# Altium footprint library thesis.PcbLib: 38 footprints (part 1 of 3)
Each footprint in its own frame and in the unit in brackets; x right, y up, seen from the top. Pads: shape width x height; smd on the part's side, far side on the other; paste and mask are expansions set on the pad; w line width, h text height; cw(c..) or ccw(c..) is an arc to the next point about the centre after c.
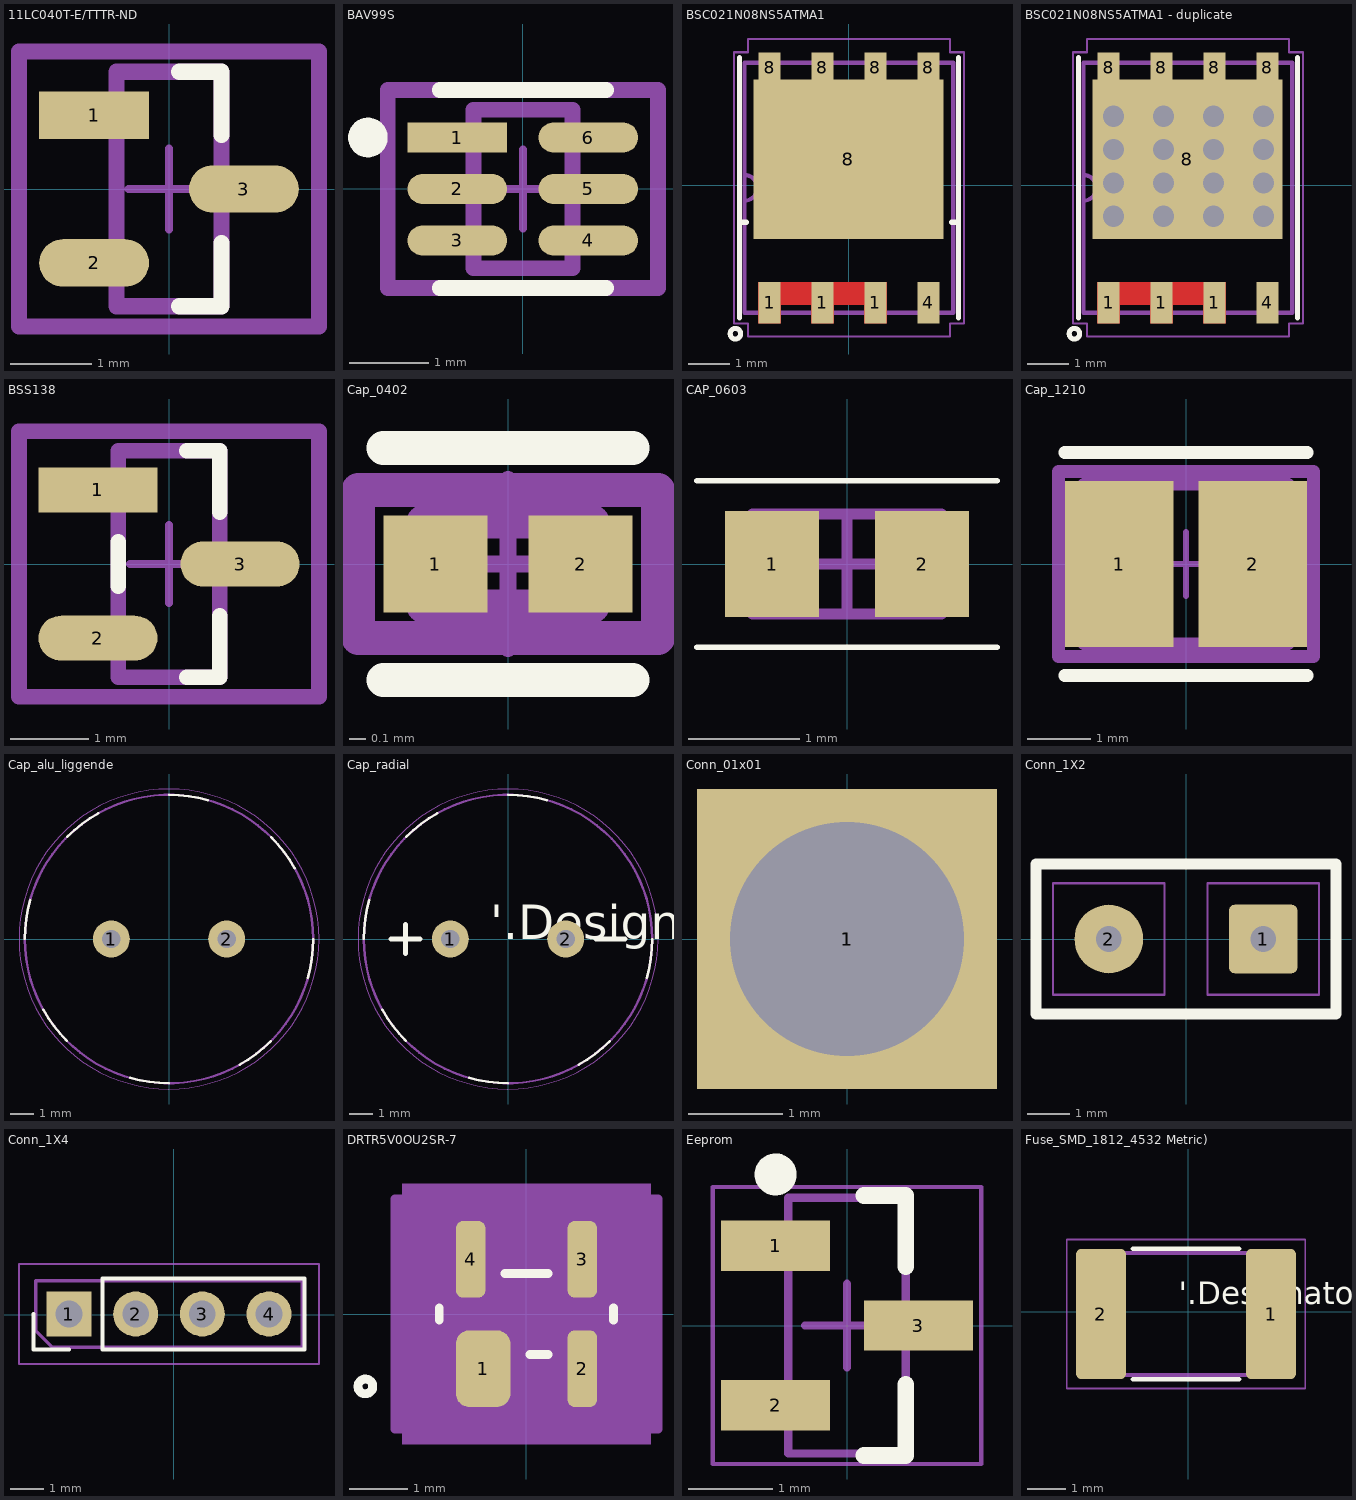
[diagram p0: the footprints below, top view; thin cyan lines are the x and y axes]

## 11LC040T-E/TTTR-ND [mm] "SOT23-3"
pads (3):
  rect 1.359x0.587 smd paste+0 mask+0: 1(-0.927,0.915)
  rrect100% 1.359x0.587 smd paste+0 mask+0: 2(-0.927,-0.915) 3(0.927,0)
Top Overlay:
  lines w0.2: 0.128,-1.45 0.65,-1.45 0.65,-0.668 ; 0.128,1.45 0.65,1.45 0.65,0.668
  text ".Designator" at -0.508,-0.413 h0.51
Top 3D Body:
  lines w0.2: -0.65,-1.45 0.65,-1.45 0.65,1.45 -0.65,1.45 -0.65,-1.45
Top Assembly:
  lines w0.2: -1.856,-1.7 1.856,-1.7 1.856,1.7 -1.856,1.7 -1.856,-1.7
Top Component Center:
  lines w0.1: -0.5,0 0.5,0 ; 0,-0.5 0,0.5
  lines w0.2: -1.856,-1.7 1.856,-1.7 1.856,1.7 -1.856,1.7 -1.856,-1.7
3D body "11LC040T-E.step": height 1.12, standoff 0, extent -1.32,-1.525 1.32,1.525

## BAV99S [mm]
pads (6):
  rect 1.259x0.382 smd paste+0 mask+0: 1(-0.827,0.65)
  rrect100% 1.259x0.382 smd paste+0 mask+0: 2(-0.827,0) 3(-0.827,-0.65) 4(0.827,-0.65) 5(0.827,0) 6(0.827,0.65)
Top Overlay:
  circle w0.25: c-1.956,0.65 r0.125
  lines w0.2: -1.05,-1.25 1.05,-1.25 ; -1.05,1.25 1.05,1.25
  text ".Designator" at -0.381,-1.072 h0.38
Top 3D Body:
  lines w0.2: -0.625,-1 0.625,-1 0.625,1 -0.625,1 -0.625,-1
Top Assembly:
  lines w0.2: -1.706,-1.25 1.706,-1.25 1.706,1.25 -1.706,1.25 -1.706,-1.25
Top Component Center:
  lines w0.1: -0.5,0 0.5,0 ; 0,-0.5 0,0.5
  lines w0.2: -1.706,-1.25 1.706,-1.25 1.706,1.25 -1.706,1.25 -1.706,-1.25
3D body "Trans_Nexperia_NX3008NBKS_115_eec.STEP": height 0.25, standoff 0, extent -1.706,-1.25 1.706,1.25

## BSC021N08NS5ATMA1 [mil] "Mosfet_esc"
pads (9):
  rect 21x39 smd mask+0: 1(-75,-110.94) 1(-25,-110.94) 1(25,-110.94) 4(75,-110.94)
  rect 21x29 smd mask+0: 8(-75,110.94) 8(-25,110.94) 8(25,110.94) 8(75,110.94)
  rect 179.13x150.64 smd mask+0: 8(-0.5,24.52)
Top Layer:
  region: 35.5,-91.44 35.5,-130.44 14.5,-130.44 14.5,-113.08 -14.5,-113.08 -14.5,-130.44 -35.5,-130.44 -35.5,-113.08 -64.5,-113.08 -64.5,-130.44 -85.5,-130.44 -85.5,-91.44
Top Overlay:
  circle w4.72: c-107.22,-140.2 r5
  lines w4.72: -103.5,-125.48 -103.5,120.52 ; 103.5,-125.48 103.5,120.52
  lines w5: -103,-35 -97,-35 ; 97,-35 103,-35
Top Paste:
  region: 83.5,-92.74 83.5,-107.74 66.5,-107.74 66.5,-92.74
  region: 83.5,-112.94 83.5,-127.94 66.5,-127.94 66.5,-112.94
  region: 33.49,-93.03 33.49,-108.03 -0.01,-108.03 -0.01,-93.03
  region: 33.5,-112.94 33.5,-127.94 16.5,-127.94 16.5,-112.94
  region: -16.5,-112.94 -16.5,-127.94 -33.5,-127.94 -33.5,-112.94
  region: -8.25,-93.03 -8.25,-108.03 -41.75,-108.03 -41.75,-93.03
  region: -50.01,-93.03 -50.01,-108.03 -83.51,-108.03 -83.51,-93.03
  region: -66.5,-112.94 -66.5,-127.94 -83.5,-127.94 -83.5,-112.94
  region: 83.5,123.54 83.5,91.04 66.5,91.04 66.5,123.54
  region: 33.5,123.54 33.5,91.04 16.5,91.04 16.5,123.54
  region: -16.5,123.54 -16.5,91.04 -33.5,91.04 -33.5,123.54
  region: -66.5,123.54 -66.5,91.04 -83.5,91.04 -83.5,123.54
  region: 63,86.04 63,27.04 4,27.04 4,86.04
  region: -3.93,86.04 -3.93,27.04 -62.93,27.04 -62.93,86.04
  region: 63,19.11 63,-39.89 4,-39.89 4,19.11
  region: -3.93,19.11 -3.93,-39.89 -62.93,-39.89 -62.93,19.11
Top Solder:
  region: 35.5,-91.44 35.5,-130.44 14.5,-130.44 14.5,-113.08 -14.5,-113.08 -14.5,-130.44 -35.5,-130.44 -35.5,-113.08 -64.5,-113.08 -64.5,-130.44 -85.5,-130.44 -85.5,-91.44
  region: 87.6,96.44 87.6,-48.25 -87.6,-48.25 -87.6,96.44
Mechanical 4:
  lines w1.97: -108.5,-130.48 -108.5,125.52 -95.5,125.52 -95.5,137.99 95.5,137.99 95.5,125.52 108.5,125.52 108.5,-130.48 95.5,-130.48 95.5,-142.95 -95.5,-142.95 -95.5,-130.48 -108.5,-130.48
Mechanical 6:
  circle w3.94: c-107.22,-140.2 r5
  lines w3.94: -98.5,-14.48 ccw(c-98.5,-2.48) -98.5,9.52 ; -98.5,-120.48 98.5,-120.48 98.5,115.52 -98.5,115.52 -98.5,-120.48
  text "*" at 4.6,-7.29 h39.37
Mechanical 7:
  text "Copyright 2021 Accelerated Designs. All rights reserved." at 1.92,-36.39 h5
3D body "Mosfet(TDSON-8-1).step": height 39.37, standoff 0, extent -105.31,-121.06 105.31,121.06

## BSC021N08NS5ATMA1 - duplicate [mil] "Mosfet_esc"
pads (9):
  rect 21x39 smd mask+0: 1(185,-110.94) 1(235,-110.94) 1(285,-110.94) 4(335,-110.94)
  rect 21x29 smd mask+0: 8(185,110.94) 8(235,110.94) 8(285,110.94) 8(335,110.94)
  rect 179.13x150.64 smd mask+0: 8(259.5,24.52)
via 189.69,-29.38 diameter 27.56 hole 20
via 189.69,2.12 diameter 27.56 hole 20
via 189.69,33.61 diameter 27.56 hole 20
via 189.69,65.11 diameter 27.56 hole 20
via 331.42,65.11 diameter 27.56 hole 20
via 284.17,65.11 diameter 27.56 hole 20
via 236.93,65.11 diameter 27.56 hole 20
via 236.93,33.61 diameter 27.56 hole 20
via 236.93,2.12 diameter 27.56 hole 20
via 236.93,-29.38 diameter 27.56 hole 20
via 284.17,33.61 diameter 27.56 hole 20
via 284.17,2.12 diameter 27.56 hole 20
via 284.17,-29.38 diameter 27.56 hole 20
via 331.42,33.61 diameter 27.56 hole 20
via 331.42,2.12 diameter 27.56 hole 20
via 331.42,-29.38 diameter 27.56 hole 20
via -60,-50 diameter 20 hole 10
via -40,-50 diameter 20 hole 10
via -20,-50 diameter 20 hole 10
via 0,-50 diameter 20 hole 10
via 20,-50 diameter 20 hole 10
via 40,-50 diameter 20 hole 10
via 60,-50 diameter 20 hole 10
via -60,-30 diameter 20 hole 10
via -40,-30 diameter 20 hole 10
via -20,-30 diameter 20 hole 10
via 0,-30 diameter 20 hole 10
via 20,-30 diameter 20 hole 10
via 40,-30 diameter 20 hole 10
via 60,-30 diameter 20 hole 10
via -60,-10 diameter 20 hole 10
via -40,-10 diameter 20 hole 10
via -20,-10 diameter 20 hole 10
via 0,-10 diameter 20 hole 10
via 20,-10 diameter 20 hole 10
via 40,-10 diameter 20 hole 10
via 60,-10 diameter 20 hole 10
via -60,10 diameter 20 hole 10
via -40,10 diameter 20 hole 10
via -20,10 diameter 20 hole 10
via 0,10 diameter 20 hole 10
via 20,10 diameter 20 hole 10
via 40,10 diameter 20 hole 10
via 60,10 diameter 20 hole 10
via -60,30 diameter 20 hole 10
via -40,30 diameter 20 hole 10
via -20,30 diameter 20 hole 10
via 0,30 diameter 20 hole 10
via 20,30 diameter 20 hole 10
via 40,30 diameter 20 hole 10
via 60,30 diameter 20 hole 10
via 60,50 diameter 20 hole 10
via 40,50 diameter 20 hole 10
via 20,50 diameter 20 hole 10
via 0,50 diameter 20 hole 10
via -20,50 diameter 20 hole 10
via -40,50 diameter 20 hole 10
via -60,50 diameter 20 hole 10
Top Layer:
  region: 295.5,-91.44 295.5,-130.44 274.5,-130.44 274.5,-113.08 245.5,-113.08 245.5,-130.44 224.5,-130.44 224.5,-113.08 195.5,-113.08 195.5,-130.44 174.5,-130.44 174.5,-91.44
Top Overlay:
  circle w4.72: c152.78,-140.2 r5
  lines w4.72: 156.5,-125.48 156.5,120.52 ; 363.5,-125.48 363.5,120.52
Top Paste:
  region: 343.5,-92.74 343.5,-107.74 326.5,-107.74 326.5,-92.74
  region: 343.5,-112.94 343.5,-127.94 326.5,-127.94 326.5,-112.94
  region: 293.49,-93.03 293.49,-108.03 259.99,-108.03 259.99,-93.03
  region: 293.5,-112.94 293.5,-127.94 276.5,-127.94 276.5,-112.94
  region: 243.5,-112.94 243.5,-127.94 226.5,-127.94 226.5,-112.94
  region: 251.75,-93.03 251.75,-108.03 218.25,-108.03 218.25,-93.03
  region: 209.99,-93.03 209.99,-108.03 176.49,-108.03 176.49,-93.03
  region: 193.5,-112.94 193.5,-127.94 176.5,-127.94 176.5,-112.94
  region: 343.5,123.54 343.5,91.04 326.5,91.04 326.5,123.54
  region: 293.5,123.54 293.5,91.04 276.5,91.04 276.5,123.54
  region: 243.5,123.54 243.5,91.04 226.5,91.04 226.5,123.54
  region: 193.5,123.54 193.5,91.04 176.5,91.04 176.5,123.54
  region: 323,86.04 323,27.04 264,27.04 264,86.04
  region: 256.07,86.04 256.07,27.04 197.07,27.04 197.07,86.04
  region: 323,19.11 323,-39.89 264,-39.89 264,19.11
  region: 256.07,19.11 256.07,-39.89 197.07,-39.89 197.07,19.11
Top Solder:
  region: 295.5,-91.44 295.5,-130.44 274.5,-130.44 274.5,-113.08 245.5,-113.08 245.5,-130.44 224.5,-130.44 224.5,-113.08 195.5,-113.08 195.5,-130.44 174.5,-130.44 174.5,-91.44
  region: 347.6,96.44 347.6,-48.25 172.4,-48.25 172.4,96.44
Mechanical 4:
  lines w1.97: 151.5,-130.48 151.5,125.52 164.5,125.52 164.5,137.99 355.5,137.99 355.5,125.52 368.5,125.52 368.5,-130.48 355.5,-130.48 355.5,-142.95 164.5,-142.95 164.5,-130.48 151.5,-130.48
Mechanical 6:
  circle w3.94: c152.78,-140.2 r5
  lines w3.94: 161.5,-14.48 ccw(c161.5,-2.48) 161.5,9.52 ; 161.5,-120.48 358.5,-120.48 358.5,115.52 161.5,115.52 161.5,-120.48
  text "*" at 264.6,-7.29 h39.37
Mechanical 7:
  text "Copyright 2021 Accelerated Designs. All rights reserved." at 261.92,-36.39 h5
3D body "Mosfet(TDSON-8-1).step": height 39.37, standoff 0, extent 154.69,-121.06 365.31,121.06

## BSS138 [mm]
pads (3):
  rect 1.524x0.578 smd paste+0 mask+0: 1(-0.91,0.95)
  rrect100% 1.524x0.578 smd paste+0 mask+0: 2(-0.91,-0.95) 3(0.91,0)
Top Overlay:
  lines w0.2: -0.65,-0.286 -0.65,0.286 ; 0.227,-1.45 0.65,-1.45 0.65,-0.664 ; 0.227,1.45 0.65,1.45 0.65,0.664
  text ".Designator" at -0.198,-0.389 h0.38
Top 3D Body:
  lines w0.2: -0.65,-1.45 0.65,-1.45 0.65,1.45 -0.65,1.45 -0.65,-1.45
Top Assembly:
  lines w0.2: -1.922,-1.7 1.922,-1.7 1.922,1.7 -1.922,1.7 -1.922,-1.7
Top Component Center:
  lines w0.1: -0.5,0 0.5,0 ; 0,-0.5 0,0.5
  lines w0.2: -1.922,-1.7 1.922,-1.7 1.922,1.7 -1.922,1.7 -1.922,-1.7
3D body "IC_ON_Semiconductor_NUD3112LT1G_eec.STEP": height 0.25, standoff 0, extent -1.922,-1.7 1.922,1.7

## Cap_0402 [mm]
pads (2):
  rect 0.615x0.572 smd paste+0 mask+0: 1(-0.429,0) 2(0.429,0)
Top Overlay:
  lines w0.2: -0.736,-0.686 0.736,-0.686 ; -0.736,0.686 0.736,0.686
  text ".Designator" at -0.381,-0.564 h0.38
Top 3D Body:
  lines w0.2: -0.5,-0.25 -0.5,0.25 0.5,0.25 0.5,-0.25 -0.5,-0.25
Top Assembly:
  lines w0.2: -0.886,-0.436 -0.886,0.436 0.886,0.436 0.886,-0.436 -0.886,-0.436
  text ".Designator" at 0,0.188 h1
Top Component Center:
  lines w0.1: -0.5,0 0.5,0 ; 0,-0.5 0,0.5
  lines w0.2: -0.886,-0.436 -0.886,0.436 0.886,0.436 0.886,-0.436 -0.886,-0.436
3D body "Cap_Murata_GCM155R71H271KA37D_eec.STEP": height 0.25, standoff 0, extent -0.886,-0.436 0.886,0.436

## CAP_0603 [mm]
pads (2):
  rect 0.85x0.95 smd: 1(-0.675,0) 2(0.675,0)
Top Overlay:
  lines w0.05: -1.35,-0.75 1.35,-0.75 ; -1.35,0.75 1.35,0.75
  text ".Designator" at -0.048,-0.45 h0.25
Mechanical 13:
  lines w0.1: -0.85,-0.45 0.85,-0.45 0.85,0.45 -0.85,0.45 -0.85,-0.45
Mechanical 15:
  lines w0.1: -0.45,0 0.45,0 ; 0,-0.45 0,0.45
3D body "CAPC1608X09N.step": height 0.9, standoff 0, extent -0.85,-0.45 0.85,0.45

## Cap_1210 [mm]
pads (2):
  rect 1.703x2.606 smd paste+0 mask+0: 1(-1.051,0) 2(1.051,0)
Top Overlay:
  lines w0.2: -1.902,-1.75 1.902,-1.75 ; -1.902,1.75 1.902,1.75
Top 3D Body:
  lines w0.2: -1.6,-1.25 1.6,-1.25 1.6,1.25 -1.6,1.25 -1.6,-1.25
Top Assembly:
  lines w0.2: -2.002,-1.45 2.002,-1.45 2.002,1.45 -2.002,1.45 -2.002,-1.45
  text ".Designator" at 0,0.188 h1
Top Component Center:
  lines w0.1: -0.5,0 0.5,0 ; 0,-0.5 0,0.5
  lines w0.2: -2.002,-1.45 2.002,-1.45 2.002,1.45 -2.002,1.45 -2.002,-1.45
3D body "Cap_Murata_GCM32DL81A106MA37K_eec.STEP": height 0.25, standoff 0, extent -2.002,-1.45 2.002,1.45

## Cap_alu_liggende [mm] "12.5mm Diameter"
pads (2):
  round 1.6 hole 0.8 paste-1.6 mask+0: 1(-2.5,0) 2(2.5,0)
Top Overlay:
  lines w0.102: -6.25,0 cw(c0,0) -6.019,1.685 ; -5.447,-3.064 ccw(c0,0) -4.419,-4.419 ; -4.419,4.419 cw(c0,0) -3.064,5.447 ; -1.685,-6.019 ccw(c0,0) 0,-6.25 ; 0,6.25 cw(c0,0) 1.685,6.019 ; 3.064,-5.447 ccw(c0,0) 4.419,-4.419 ; 4.419,4.419 cw(c0,0) 5.447,3.064 ; 6.019,-1.685 ccw(c0,0) 6.25,0
Mechanical 4:
  circle w0.05: c0,0 r6.5
Mechanical 6:
  circle w0.1: c0,0 r6.25
  text "'.Designator'" at -3,0.75 h2
3D body "cap_alu_liggende.STEP": height 10.08, standoff -11.02, extent -5.001,-0.48 5,31.27

## Cap_radial [mm]
pads (2):
  round 1.6 hole 0.8 paste-1.6 mask+0: 1(-2.5,0) 2(2.5,0)
Top Overlay:
  lines w0.102: -6.25,0 cw(c0,0) -6.019,1.685 ; -5.447,-3.064 ccw(c0,0) -4.419,-4.419 ; -4.419,4.419 cw(c0,0) -3.064,5.447 ; -1.685,-6.019 ccw(c0,0) 0,-6.25 ; 0,6.25 cw(c0,0) 1.685,6.019 ; 3.064,-5.447 ccw(c0,0) 4.419,-4.419 ; 6.019,-1.685 ccw(c0,0) 6.25,0
  lines w0.203: -5.08,0 -3.81,0 ; -4.445,-0.635 -4.445,0 -4.445,0.635 ; 3.81,0 5.08,0
  text "'.Designator'" at -0.762,-0.508 h2.54
Mechanical 4:
  circle w0.05: c0,0 r6.5
Mechanical 6:
  circle w0.1: c0,0 r6.25
3D body "ECA1JM471.STEP": height 20.01, standoff -16.99, extent -6.25,-6.249 6.25,6.249

## Conn_01x01 [mm]
pads (2):
  rect 3.2x3.2 hole 2.5 paste-3.2 mask+0: 1(0,0) 1(0,0)
Mechanical 6:
  text "'.Designator'" at -5.746,2.287 h1

## Conn_1X2 [mm]
pads (2):
  rrect16% 1.6x1.6 hole 0.6 paste-1.6 mask+0: 1(1.8,0)
  round 1.6 hole 0.6 paste-1.6 mask+0: 2(-1.8,0)
Top Overlay:
  lines w0.254: -3.5,-1.75 3.5,-1.75 3.5,1.75 -2.75,1.75 -3.5,1.75 -3.5,-1.75
Mechanical 4:
  lines w0.05: -3.1,-1.3 -0.5,-1.3 -0.5,1.3 -3.1,1.3 -3.1,-1.3 ; 0.5,-1.3 3.1,-1.3 3.1,1.3 0.5,1.3 0.5,-1.3
Mechanical 6:
  circle w0.1: c-1.8,0 r0.5
  circle w0.1: c1.8,0 r0.5
  text "'.Designator'" at 0.25,-1 h0.65

## Conn_1X4 [mm]
pads (4):
  rect 1.35x1.35 hole 0.8 paste-1.35 mask+0: 1(-3.149,0.024)
  rrect100% 1.35x1.35 hole 0.8 paste-1.35 mask+0: 2(-1.149,0.024) 3(0.851,0.024) 4(2.851,0.024)
Top Overlay:
  lines w0.12: -4.209,0.024 -4.209,-1.036 -3.149,-1.036 ; -2.149,-1.036 -2.149,1.084 3.911,1.084 3.911,-1.036 -2.149,-1.036
Mechanical 4:
  lines w0.05: -4.649,-1.476 -4.649,1.524 4.351,1.524 4.351,-1.476 -4.649,-1.476
Mechanical 6:
  lines w0.1: -4.149,-0.476 -3.649,-0.976 3.851,-0.976 3.851,1.024 -4.149,1.024 -4.149,-0.476
  text "'.Designator'" at -3.302,1.524 h2

## DRTR5V0OU2SR-7 [mil] "SOT143_DIO"
pads (4):
  rrect50% 37x52 smd paste+0 mask+0: 1(-29.3,-37)
  rrect50% 20x52 smd paste+0 mask+0: 2(37.8,-37) 3(37.8,37) 4(-37.8,37)
Top Overlay:
  circle w6: c-109,-49 r5
  lines w6: -59,-4.21 -59,4.21 ; -14.7,27.5 14.7,27.5 ; 2.3,-27.5 14.7,-27.5 ; 59,-4.21 59,4.21
  text ".Designator" at -5,-3.12 h10
Mechanical 5:
  region: -84,88 84,88 84,-88 -84,-88
Mechanical 13:
  circle w0: c-49,-17.5 r5
  lines w1: -59,-27.5 -59,27.5 59,27.5 59,-27.5 -59,-27.5 ; -47.8,-49 -10.8,-49 -10.8,-27.5 -47.8,-27.5 -47.8,-49 ; -47.8,27.5 -47.8,49 -27.8,49 -27.8,27.5 -47.8,27.5 ; 27.8,-49 47.8,-49 47.8,-27.5 27.8,-27.5 27.8,-49 ; 27.8,27.5 27.8,49 47.8,49 47.8,27.5 27.8,27.5
Mechanical 15:
  region: -89,-78 -89,78 89,78 89,-78
  lines w6: -89,-78 -89,78 89,78 89,-78 -89,-78
3D body "SOT143_DIO.step": height 43.11, standoff 0, extent -59.02,-49.02 59.02,49.02

## Eeprom [mm] "11LC040T-E_TT"
pads (3):
  rect 1.3x0.6 smd: 1(-0.85,0.95) 2(-0.85,-0.95) 3(0.85,0)
Top Overlay:
  circle w0.25: c-0.85,1.8 r0.125
  lines w0.2: 0.2,-1.55 0.7,-1.55 0.7,-0.7 ; 0.2,1.55 0.7,1.55 0.7,0.7
  text ".Designator" at -0.048,0 h0.25
Mechanical 13:
  lines w0.1: -0.7,-1.525 -0.7,1.525 0.7,1.525 0.7,-1.525 -0.7,-1.525
Mechanical 15:
  lines w0.05: -1.6,-1.65 -1.6,1.65 1.6,1.65 1.6,-1.65 -1.6,-1.65
  lines w0.1: -0.5,0 0.5,0 ; 0,-0.5 0,0.5
3D body: height 1.12, standoff 0.01, extent -0.7,-1.525 0.7,1.525

## Fuse_SMD_1812_4532 Metric) [mm] "ERJ2G"
pads (2):
  rrect19% 1.3x3.4 smd mask+0: 1(2.163,-0.061) 2(-2.287,-0.061)
Top Overlay:
  lines w0.12: -1.448,-1.771 1.324,-1.771 ; -1.448,1.649 1.324,1.649
  text "'.Designator'" at -0.254,0 h1.02
Mechanical 4:
  lines w0.05: -3.182,-2.011 -3.182,1.889 3.058,1.889 3.058,-2.011 -3.182,-2.011
Mechanical 6:
  lines w0.1: -2.312,-1.661 -2.312,1.539 2.188,1.539 2.188,-1.661 -2.312,-1.661